# Altium schematic symbol library Sch.SchLib: 10 symbols
Pins are listed as number, name and electrical type; pins without a type are passive.

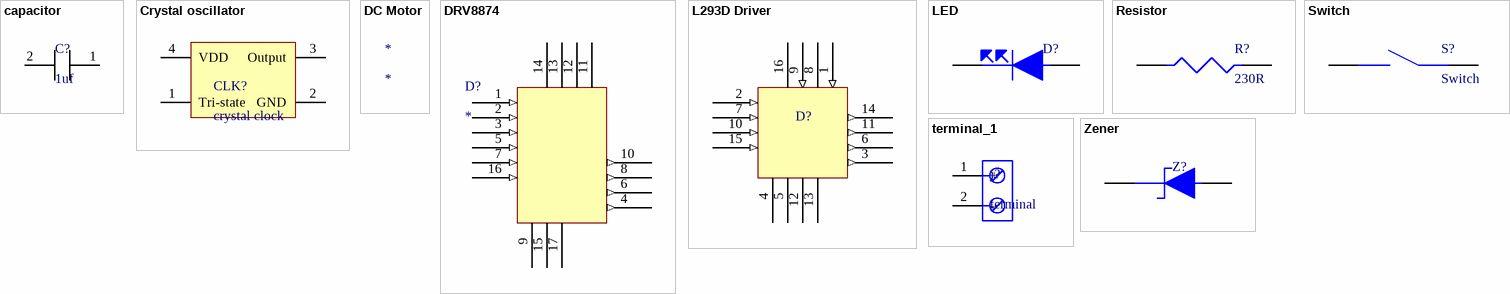
[diagram p0: symbols capacitor to Zener]

## capacitor
designator C?, comment 1uf
Aluminum Electrolytic Capacitor, Aluminum (wet); Manufacturer: Wurth Electronics; Manufacturer Part Number: 860020672005; Dielectric Material: Aluminium; Supplier: Digikey; Supplier Part Number: 732-8851-1-ND; RoHS: Yes; Category: Aluminum Electrolytic Capacitors; Stock: 10459; Pricing: 1=0.1, 50=0.089, 100=0.078, 250=0.069, 500=0.06, 1000=0.058 (USD); Pins: 2; Capacitor Type: Aluminium; Reach SVHC Compliant: Yes; RoHS Compliant: Yes; ComponentLink1URL: https://datasheet.ciiva.com:443/pdfs/VipMasterIC/IC/MIDC/MIDC-S-A0000764616/MIDC-S-A0000764162-1.pdf?src-supplier=IHS+Markit; ComponentLink1Description: https://datasheet.ciiva.com:443/pdfs/VipMasterIC/IC/MIDC/MIDC-S-A0000764616/MIDC-S-A0000764162-1.pdf?src-supplier=IHS+Markit; ComponentLink2URL: http://www.farnell.com/datasheets/1879647.pdf?src-supplier=Farnell; ComponentLink2Description: http://www.farnell.com/datasheets/1879647.pdf?src-supplier=Farnell; ComponentLink3URL: http://katalog.we-online.de/pbs/datasheet/860020672005.pdf?src-supplier=Digikey; ComponentLink3Description: http://katalog.we-online.de/pbs/datasheet/860020672005.pdf?src-supplier=Digikey; ComponentLink4URL: https://katalog.we-online.de/pbs/datasheet/860020672005.pdf?src-supplier=Digikey; ComponentLink4Description: https://katalog.we-online.de/pbs/datasheet/860020672005.pdf?src-supplier=Digikey; ComponentLink5URL: http://www.farnell.com/datasheets/1879647.pdf?src-supplier=Element14; ComponentLink5Description: http://www.farnell.com/datasheets/1879647.pdf?src-supplier=Element14
footprint Capacitor
pins: 1 34, 2 33

## Crystal oscillator
designator CLK?, comment crystal clock
Oscillator XO 0.032768MHz ±25ppm 15pF 60% 3.3V 4-Pin SMD T/R; Manufacturer: Abracon; Manufacturer Part Number: ASEK-32.768KHZ-L-R-T; Supplier: Mouser; Supplier Part Number: 815-ASEK-32.7K-LRT; RoHS: No; Stock: 5543; Pricing: 1=1.33, 10=1.04, 50=1.04, 100=0.986, 1000=0.787, 10000=0.696 (USD)
footprint Crystal Oscillator
pins: 1 Tri-state, 2 GND, 3 Output, 4 VDD

## DC Motor
designator *

## DRV8874
designator D?
ComponentLink1Description: DigiKey; ComponentLink1URL: https://www.digikey.com/en/products/detail/texas-instruments/DRV8874PWPR/11502339
footprint LCC16
pins: 1 (in), 2 (in), 3 (in), 4 (out), 5 (in), 6 (out), 7 (in), 8 (out), 9 (power), 10 (out), 11 (power), 12 (power), 13 (power), 14 (power), 15 (power), 16 (in), 17 (power)

## L293D Driver
designator D?
IC MTRDRV BIPLR 4.5-36V 16PWRDIP; Part Number: 497-2936-5-ND; ComponentLink1Description: DigiKey; ComponentLink1URL: https://www.digikey.com/en/products/detail/stmicroelectronics/L293D/634700
footprint Driver
pins: 1 (in), 2 (in), 3 (out), 4 (power), 5 (power), 6 (out), 7 (in), 8 (power), 9 (in), 10 (in), 11 (out), 12 (power), 13 (power), 14 (out), 15 (in), 16 (power)

## LED
designator D?
LED GREEN CLEAR 3528 SMD; Part Number: 732-4997-1-ND; ComponentLink1Description: DigiKey; ComponentLink1URL: https://www.digikey.com/en/products/detail/w%C3%BCrth-elektronik/150141GS73100/4489957
footprint LED
pins: 1, 2

## Resistor
designator R?, comment 230R
RES SMD 230OHM 0.01% 1/4W J LEAD; Part Number: Y1121230R000T9L-ND; ComponentLink1Description: DigiKey; ComponentLink1URL: https://www.digikey.com/en/products/detail/vpg-foil-resistors/Y1121230R000T9L/4225988
footprint Resistor
pins: 1, 2

## Switch
designator S?
SWITCH TOGGLE SPDT 0.4VA 28V; Part Key: 360-1774-ND; ComponentLink1Description: DigiKey; ComponentLink1URL: https://www.digikey.com/en/products/detail/nkk-switches/G3T12AP/1006855
footprint Switch
pins: 1, 2

## terminal_1
designator j?, comment terminal
Barrier Strip Terminal Block; Manufacturer: Wurth Electronics; Manufacturer Part Number: 691137710002; Supplier: Rs; Supplier Part Number: 1769908; RoHS: No; Category: Terminal Blocks; Stock: 355; Pricing: 500=0.218, 1000=0.202, 2500=0.189 (GBP); RoHS Compliant: Yes; ComponentLink1URL: https://datasheet.ciiva.com:443/pdfs/VipMasterIC/IC/MIDC/MIDC-S-A0005074262/MIDC-S-A0004711666-1.pdf?src-supplier=IHS+Markit; ComponentLink1Description: https://datasheet.ciiva.com:443/pdfs/VipMasterIC/IC/MIDC/MIDC-S-A0005074262/MIDC-S-A0004711666-1.pdf?src-supplier=IHS+Markit; ComponentLink2URL: https://katalog.we-online.de/em/datasheet/691137710002.pdf?src-supplier=Digikey; ComponentLink2Description: https://katalog.we-online.de/em/datasheet/691137710002.pdf?src-supplier=Digikey
footprint TERMINAL - duplicate
pins: 1 +, 2 -

## Zener
designator Z?
TVS DIODE 5VWM SOD923; Part Number: ESD9B5.0ST5GOSDKR-ND; ComponentLink1Description: DigiKey; ComponentLink1URL: https://www.digikey.com/en/products/detail/onsemi/ESD9B5-0ST5G/1646449
footprint Zener
pins: 1, 2